# EAGLE library part PIEZO_STATOR_13.8MM (library MakBit)
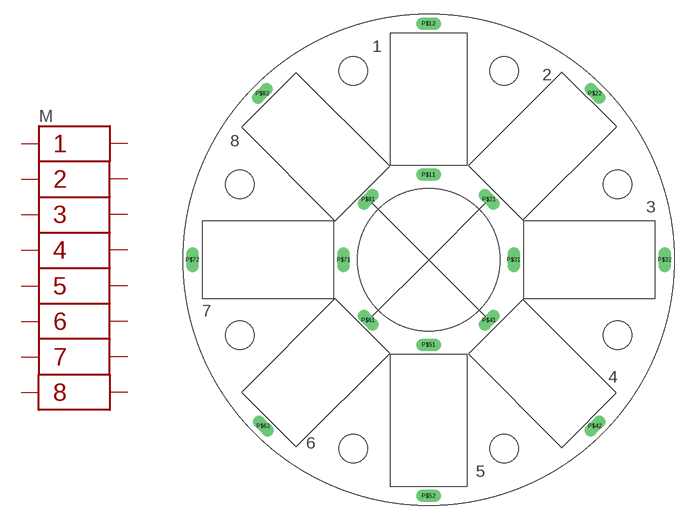
[diagram p25: symbol with the pads of PIEZO_STATOR_13.8; footprint PIEZO_STATOR_13.8]

Designator prefix M

## PIEZO_STATOR_13.8MM  [PIEZO_STATOR_13.8]
P$11  P$11
P$12  P$12
P$21  P$21
P$22  P$22
P$31  P$31
P$32  P$32
P$41  P$41
P$42  P$42
P$51  P$51
P$52  P$52
P$61  P$61
P$62  P$62
P$71  P$71
P$72  P$72
P$81  P$81
P$82  P$82

## Footprint PIEZO_STATOR_13.8 (pad centres in mm)
drill 0.8 long: P$11 0,9; P$12 0,25; P$21 6.4,6.4; P$22 17.6,17.6; P$31 9,0; P$32 25,0; P$41 6.4,-6.4; P$42 17.6,-17.6; P$51 0,-9; P$52 0,-25; P$61 -6.4,-6.4; P$62 -17.5,-17.6; P$71 -9,0; P$72 -25,0; P$81 -6.4,6.4; P$82 -17.6,17.6
hole 3 at -8,20
hole 3 at 8,20
hole 3 at 20,8
hole 3 at 20,-8
hole 3 at 8,-20
hole 3 at -8,-20
hole 3 at -20,-8
hole 3 at -20,8